# Altium footprint library RBS040200.PcbLib: 1 footprints
Each footprint in its own frame and in the unit in brackets; x right, y up, seen from the top. Pads: shape width x height; smd on the part's side, far side on the other; paste and mask are expansions set on the pad; w line width, h text height; cw(c..) or ccw(c..) is an arc to the next point about the centre after c.
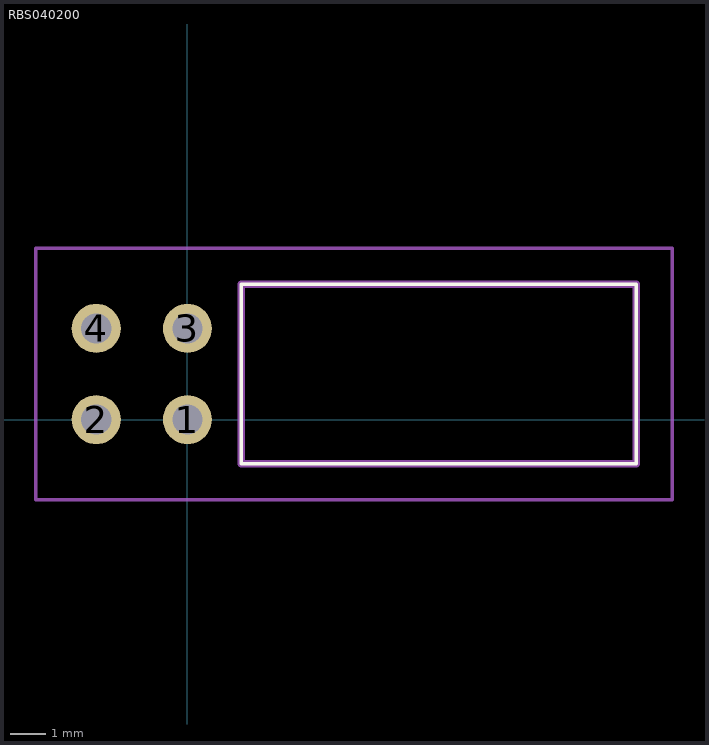
[diagram p0: the footprint, top view; thin cyan lines are the x and y axes]

## RBS040200 [mm]
pads (4):
  round 1.365 hole 0.84: 1(0,0) 2(-2.54,0) 3(0,2.54) 4(-2.54,2.54)
Top Overlay:
  lines w0.1: 1.5,-1.23 12.5,-1.23 12.5,3.77 1.5,3.77 1.5,-1.23
Mechanical 15:
  lines w0.2: 1.5,-1.23 12.5,-1.23 12.5,3.77 1.5,3.77 1.5,-1.23
Mechanical 20:
  lines w0.1: -4.223,-2.23 13.5,-2.23 13.5,4.77 -4.223,4.77 -4.223,-2.23